# Altium schematic symbol library SN74LV161APWR.Schlib: 1 symbol
Pins are listed as number, name and electrical type; pins without a type are passive.

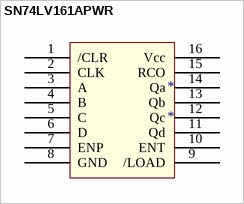
[diagram p0: symbol SN74LV161APWR]

## SN74LV161APWR
designator *
pins: 1 /CLR, 2 CLK, 3 A, 4 B, 5 C, 6 D, 7 ENP, 8 GND, 9 /LOAD, 10 ENT, 11 Qd, 12 Qc, 13 Qb, 14 Qa, 15 RCO, 16 Vcc